# EAGLE library part TESTCHIP2C (library harrison)
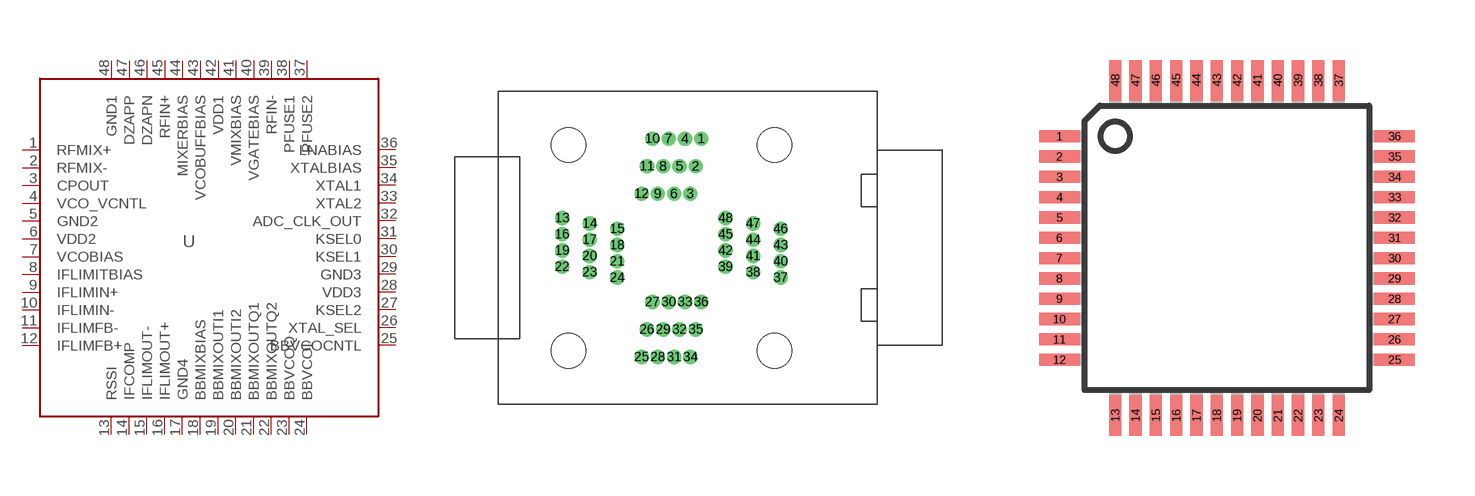
[diagram p37: symbol with the pads of ZIF_QFP48_7_X_7; footprints ZIF_QFP48_7_X_7, TQFP-48]

Designator prefix U

## TESTCHIP2CZIF  [ZIF_QFP48_7_X_7]
1  RFMIX+
2  RFMIX-
3  CPOUT
4  VCO_VCNTL
5  GND2
6  VDD2
7  VCOBIAS
8  IFLIMITBIAS
9  IFLIMIN+
10  IFLIMIN-
11  IFLIMFB-
12  IFLIMFB+
13  RSSI
14  IFCOMP
15  IFLIMOUT-
16  IFLIMOUT+
17  GND4
18  BBMIXBIAS
19  BBMIXOUTI1
20  BBMIXOUTI2
21  BBMIXOUTQ1
22  BBMIXOUTQ2
23  BBVCOQ
24  BBVCOI
25  BBVCOCNTL
26  XTAL_SEL
27  KSEL2
28  VDD3
29  GND3
30  KSEL1
31  KSEL0
32  ADC_CLK_OUT
33  XTAL2
34  XTAL1
35  XTALBIAS
36  LNABIAS
37  PFUSE2
38  PFUSE1
39  RFIN-
40  VGATEBIAS
41  VMIXBIAS
42  VDD1
43  VCOBUFFBIAS
44  MIXERBIAS
45  RFIN+
46  DZAPN
47  DZAPP
48  GND1

## TESTCHIP2CQFP  [TQFP-48]
Pads as for ZIF_QFP48_7_X_7

## Footprint ZIF_QFP48_7_X_7 (pad centres in mm)
drill 0.8 pad 1.27: 1 2.75,10.08; 2 2.25,7.54; 3 1.75,5; 4 1.25,10.08; 5 0.75,7.54; 6 0.25,5; 7 -0.25,10.08; 8 -0.75,7.54; 9 -1.25,5; 10 -1.75,10.08; 11 -2.25,7.54; 12 -2.75,5; 13 -10.08,2.75; 14 -7.54,2.25; 15 -5,1.75; 16 -10.08,1.25; 17 -7.54,0.75; 18 -5,0.25; 19 -10.08,-0.25; 20 -7.54,-0.75; 21 -5,-1.25; 22 -10.08,-1.75; 23 -7.54,-2.25; 24 -5,-2.75; 25 -2.75,-10.08; 26 -2.25,-7.54; 27 -1.75,-5; 28 -1.25,-10.08; 29 -0.75,-7.54; 30 -0.25,-5; 31 0.25,-10.08; 32 0.75,-7.54; 33 1.25,-5; 34 1.75,-10.08; 35 2.25,-7.54; 36 2.75,-5; 37 10.08,-2.75; 38 7.54,-2.25; 39 5,-1.75; 40 10.08,-1.25; 41 7.54,-0.75; 42 5,-0.25; 43 10.08,0.25; 44 7.54,0.75; 45 5,1.25; 46 10.08,1.75; 47 7.54,2.25; 48 5,2.75
hole 3.2 at 9.5,9.5
hole 3.2 at -9.5,9.5
hole 3.2 at -9.5,-9.5
hole 3.2 at 9.5,-9.5

## Footprint TQFP-48 (pad centres in mm)
smd 1.016 x 0.305: 1 -4.191,2.794; 2 -4.191,2.286; 3 -4.191,1.778; 4 -4.191,1.27; 5 -4.191,0.762; 6 -4.191,0.254; 7 -4.191,-0.254; 8 -4.191,-0.762; 9 -4.191,-1.27; 10 -4.191,-1.778; 11 -4.191,-2.286; 12 -4.191,-2.794; 25 4.191,-2.794; 26 4.191,-2.286; 27 4.191,-1.778; 28 4.191,-1.27; 29 4.191,-0.762; 30 4.191,-0.254; 31 4.191,0.254; 32 4.191,0.762; 33 4.191,1.27; 34 4.191,1.778; 35 4.191,2.286; 36 4.191,2.794
smd 0.305 x 1.016: 13 -2.794,-4.191; 14 -2.286,-4.191; 15 -1.778,-4.191; 16 -1.27,-4.191; 17 -0.762,-4.191; 18 -0.254,-4.191; 19 0.254,-4.191; 20 0.762,-4.191; 21 1.27,-4.191; 22 1.778,-4.191; 23 2.286,-4.191; 24 2.794,-4.191; 37 2.794,4.191; 38 2.286,4.191; 39 1.778,4.191; 40 1.27,4.191; 41 0.762,4.191; 42 0.254,4.191; 43 -0.254,4.191; 44 -0.762,4.191; 45 -1.27,4.191; 46 -1.778,4.191; 47 -2.286,4.191; 48 -2.794,4.191